# EAGLE library part BTM-112 (library Zoli2_2015-02-22)
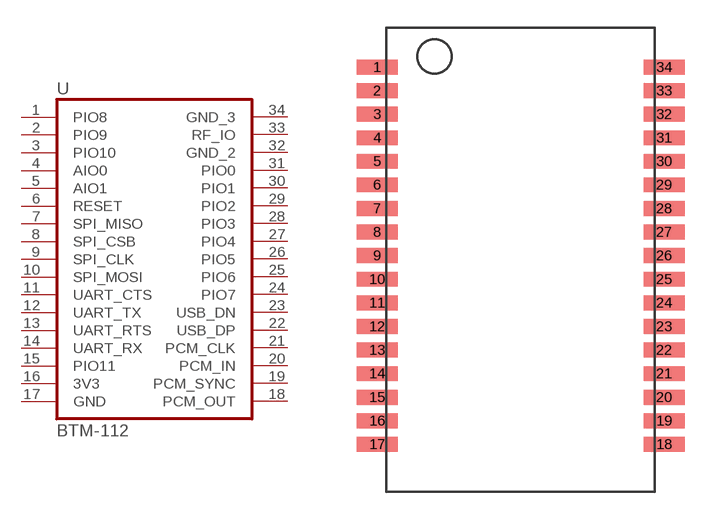
[diagram p60: symbol with the pads of BTM-112; footprint BTM-112]

Designator prefix -

## BTM-112  [BTM-112]
1  PIO8
2  PIO9
3  PIO10
4  AIO0
5  AIO1
6  RESET  in
7  SPI_MISO  out
8  SPI_CSB  in
9  SPI_CLK  in
10  SPI_MOSI  in
11  UART_CTS  in
12  UART_TX  out
13  UART_RTS  out
14  UART_RX  in
15  PIO11
16  3V3  pwr
17  GND  pwr
18  PCM_OUT  out
19  PCM_SYNC
20  PCM_IN  in
21  PCM_CLK
22  USB_DP
23  USB_DN
24  PIO7
25  PIO6
26  PIO5
27  PIO4
28  PIO3
29  PIO2
30  PIO1
31  PIO0
32  GND_2  pwr
33  RF_IO
34  GND_3  pwr

## Footprint BTM-112 (pad centres in mm)
smd 2.2 x 0.8: 1 -7.72,10.39; 2 -7.72,9.12; 3 -7.72,7.85; 4 -7.72,6.58; 5 -7.72,5.31; 6 -7.72,4.04; 7 -7.72,2.76; 8 -7.72,1.49; 9 -7.72,0.22; 10 -7.72,-1.06; 11 -7.72,-2.33; 12 -7.72,-3.61; 13 -7.72,-4.88; 14 -7.72,-6.15; 15 -7.72,-7.43; 16 -7.71,-8.7; 17 -7.71,-9.97; 18 7.77,-9.97; 19 7.77,-8.7; 20 7.76,-7.43; 21 7.76,-6.15; 22 7.76,-4.88; 23 7.76,-3.61; 24 7.76,-2.33; 25 7.76,-1.06; 26 7.76,0.22; 27 7.76,1.49; 28 7.76,2.76; 29 7.76,4.04; 30 7.76,5.31; 31 7.76,6.58; 32 7.76,7.85; 33 7.76,9.12; 34 7.76,10.39